# Altium schematic symbol library IR2109.SchLib: 1 symbol
Pins are listed as number, name and electrical type; pins without a type are passive.

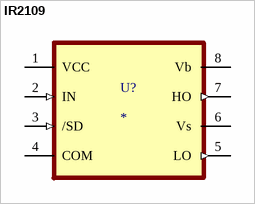
[diagram p0: symbol IR2109]

## IR2109
designator U?
Floating channel designed for bootstrap operation | Fully operational to +600 V | Tolerant to negative transient voltage, dV/dt immune | Gate drive supply range from 10 V to 20 V | Undervoltage lockout for both channels | 3.3 V and 5 V input logic compatible | Matched propagation delay for both channels | Logic and power ground +/- 5 V offset | Lower di/dt gate driver for better noise immunity | Output source/sink current capability 4 A/4 A; MP: IR2109; MF: Infineon; Price: None; Availability: Good; Check_prices: https://www.snapeda.com/parts/IRS2186STRPBF/Infineon%20Technologies/view-part/563209/?ref=eda; Package: SOIC-8 Infineon; SnapEDA_Link: https://www.snapeda.com/parts/IRS2186STRPBF/Infineon%20Technologies/view-part/563209/?ref=snap; Value: *; Purchase-URL: https://pricing.snapeda.com/search/part/IRS2186STRPBF/?ref=eda
footprint SOIC127P600X175-8N
pins: 1 VCC (power), 2 IN (in), 3 /SD (in), 4 COM, 5 LO (out), 6 Vs (power), 7 HO (out), 8 Vb (power)